# EAGLE library part 204711-0001 (library Custom)
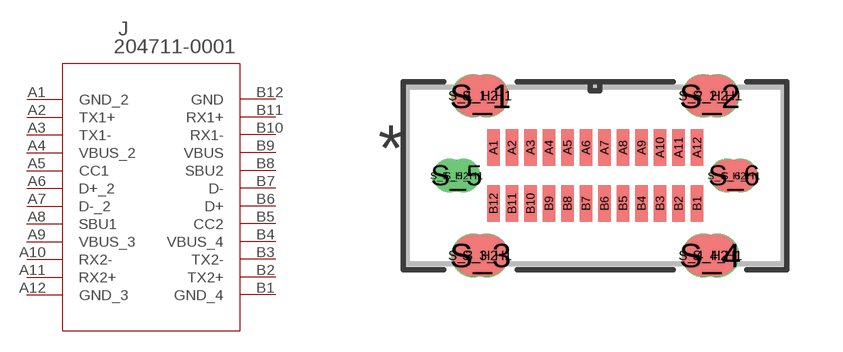
[diagram p2: symbol with the pads of 204711-0001_MOL; footprint 204711-0001_MOL]

Designator prefix J

## 204711-0001 (BUILT_BY: EMA_Cory; COPYRIGHT: Copyright (C) 2018 Accelerated Designs. All rights reserved; DATASHEET: https://www.molex.com/pdm_docs/sd/2047110001_sd.pdf; MANUFACTURER_PART_NUMBER: 204711-0001; SOURCELIBRARY: Molex_2020-03-12; VENDOR: Molex Connector Corporation)  [204711-0001_MOL]
A1  GND_2  pas
A2  TX1+  pas
A3  TX1-  pas
A4  VBUS_2  pwr
A5  CC1  pas
A6  D+_2  pas
A7  D-_2  pas
A8  SBU1  pas
A9  VBUS_3  pwr
A10  RX2-  pas
A11  RX2+  pas
A12  GND_3  pas
B1  GND_4  pas
B2  TX2+  pas
B3  TX2-  pas
B4  VBUS_4  pwr
B5  CC2  pas
B6  D+  pas
B7  D-  pas
B8  SBU2  pas
B9  VBUS  pwr
B10  RX1-  pas
B11  RX1+  pas
B12  GND  pas

## Footprint 204711-0001_MOL (pad centres in mm)
smd 0.33 x 0.991: A1 -2.75,0.755; A2 -2.25,0.755; A3 -1.75,0.755; A4 -1.25,0.755; A5 -0.75,0.755; A6 -0.25,0.755; A7 0.25,0.755; A8 0.75,0.755; A9 1.25,0.755; A10 1.75,0.755; A11 2.25,0.755; A12 2.75,0.755; B1 2.75,-0.755; B2 2.25,-0.755; B3 1.75,-0.755; B4 1.25,-0.755; B5 0.75,-0.755; B6 0.25,-0.755; B7 -0.25,-0.755; B8 -0.75,-0.755; B9 -1.25,-0.755; B10 -1.75,-0.755; B11 -2.25,-0.755; B12 -2.75,-0.755
smd 1.499 x 1.118: S_1 -3.1,2.15; S_2 3.1,2.15; S_3 -3.1,-2.15; S_4 3.1,-2.15
drill 0.66 pad 0.66: S_1_H1 -2.921,2.159; S_1_H2 -3.302,2.159; S_2_H1 3.302,2.159; S_2_H2 2.921,2.159; S_3_H1 -2.921,-2.159; S_3_H2 -3.302,-2.159; S_4_H1 3.302,-2.159; S_4_H2 2.921,-2.159
smd 1.245 x 0.864: S_5 -3.75,0; S_6 3.75,0
drill 0.406 pad 0.406: S_5_H1 -3.556,0; S_5_H2 -3.937,0; S_6_H1 3.937,0; S_6_H2 3.556,0